# Altium footprint library lib_for_test_work.PcbLib: 15 footprints
Each footprint in its own frame and in the unit in brackets; x right, y up, seen from the top. Pads: shape width x height; smd on the part's side, far side on the other; paste and mask are expansions set on the pad; w line width, h text height; cw(c..) or ccw(c..) is an arc to the next point about the centre after c.
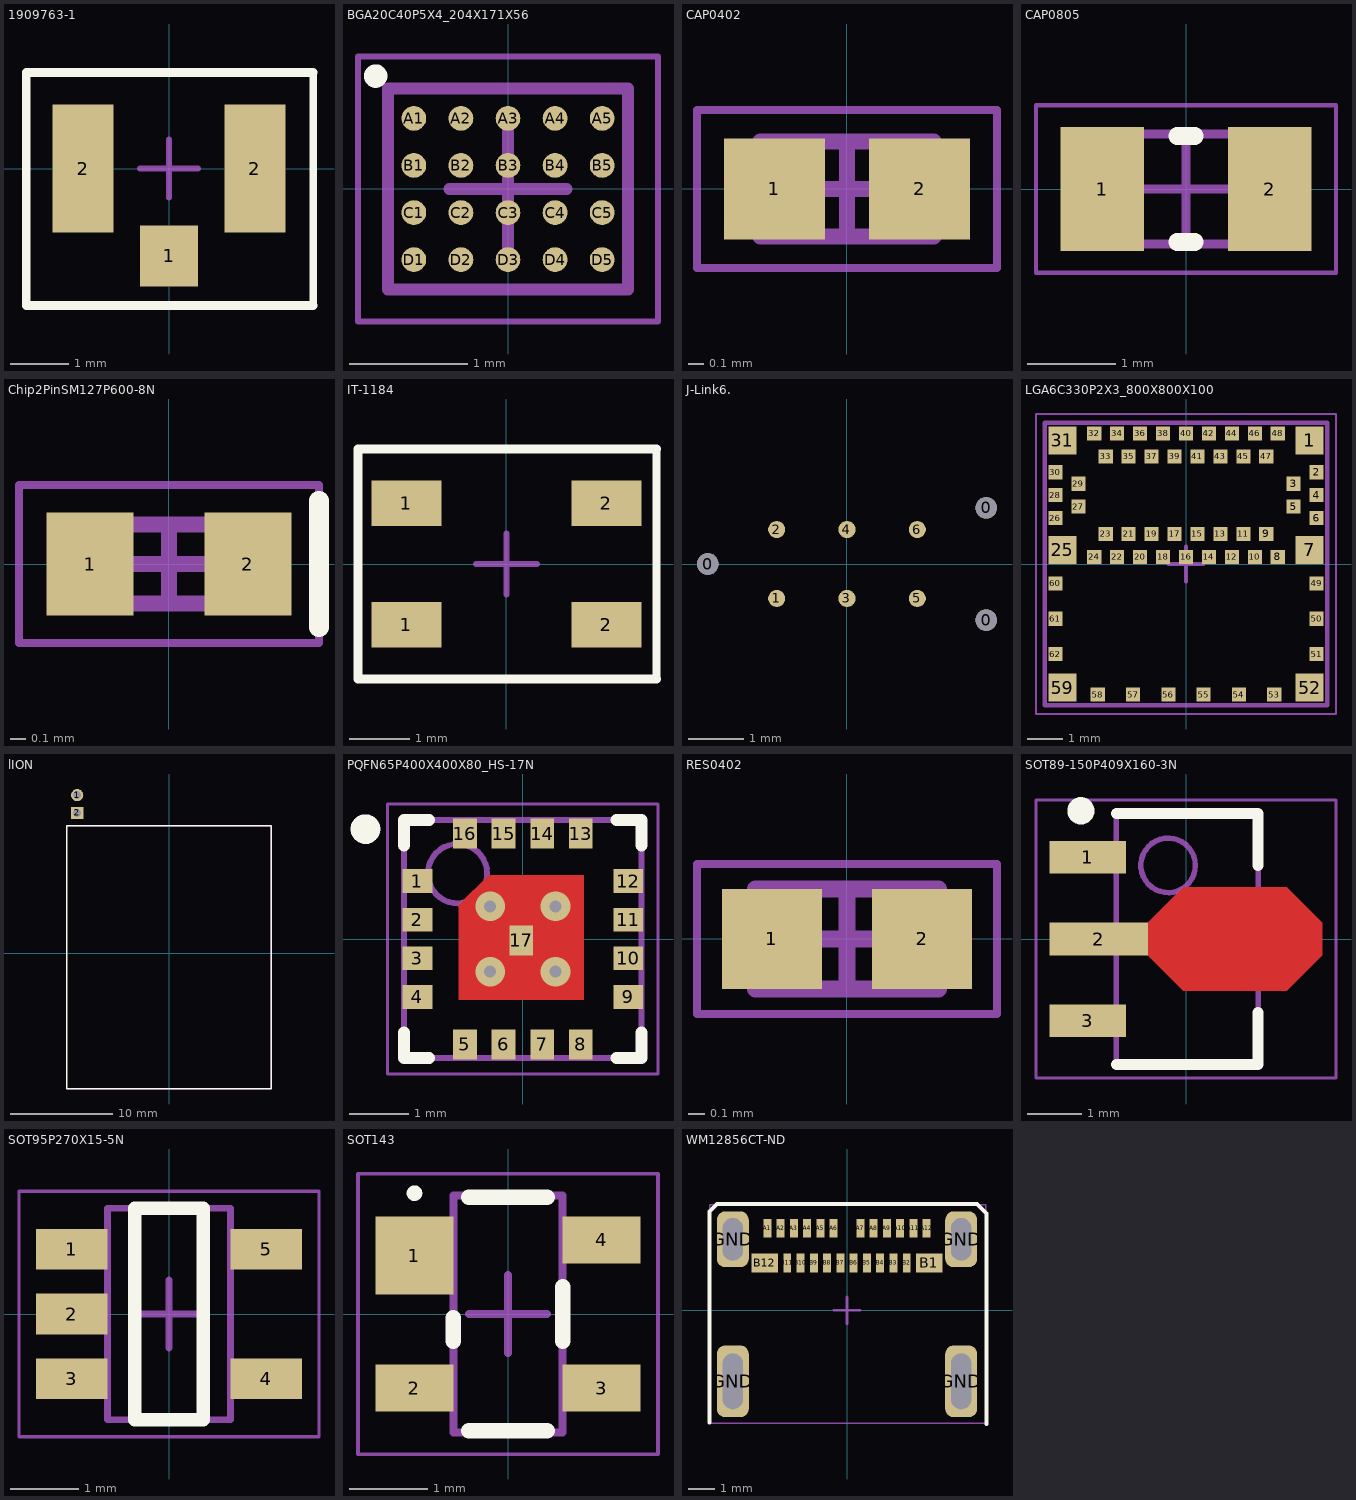
[diagram p0: the footprints below, top view; thin cyan lines are the x and y axes]

## 1909763-1 [mm] "RF-connector"
height 1.25
pads (3):
  rect 1x1.05 smd: 1(0,-1.5)
  rect 1.05x2.2 smd: 2(-1.475,0) 2(1.475,0)
Top Overlay:
  lines w0.125: 2.475,-2.35 2.475,1.65
  lines w0.15: 2.475,-2.35 -2.45,-2.35 -2.45,1.65 2.475,1.65
Mechanical 15:
  lines w0.05: -2.45,-2.35 -2.45,1.65 2.5,1.65 2.5,-2.35 -2.45,-2.35
  lines w0.1: -0.5,0 0.5,0 ; 0,-0.5 0,0.5
3D body: height 0.35, standoff 0, extent -1.4,-1.5 1.4,1.5
3D body: height 1.25, standoff 0, extent -0.992,-0.998 1,0.998

## BGA20C40P5X4_204X171X56 [mm] "BGA, 20-Leads, Body 2.04x1.71mmx0.56mm, Pitch 0.40mm"
height 0.56
pads (20):
  round 0.21 smd: A1(-0.8,0.6) A2(-0.4,0.6) A3(0,0.6) A4(0.4,0.6) A5(0.8,0.6) B1(-0.8,0.2) B2(-0.4,0.2) B3(0,0.2) B4(0.4,0.2) B5(0.8,0.2) C1(-0.8,-0.2) C2(-0.4,-0.2) C3(0,-0.2) C4(0.4,-0.2) C5(0.8,-0.2) D1(-0.8,-0.6) D2(-0.4,-0.6) D3(0,-0.6) D4(0.4,-0.6) D5(0.8,-0.6)
Top Overlay:
  circle w0.1: c-1.125,0.96 r0.05
Mechanical 13:
  lines w0.1: -1.02,-0.855 -1.02,0.855 1.02,0.855 1.02,-0.855 -1.02,-0.855
Mechanical 15:
  lines w0.05: -1.275,-1.125 -1.275,1.125 1.275,1.125 1.275,-1.125 -1.275,-1.125
  lines w0.1: -0.5,0 0.5,0 ; 0,-0.5 0,0.5
3D body: height 0.56, standoff 0.17, extent -1.02,-0.855 1.02,0.855

## CAP0402 [mm]
height 0.35
pads (2):
  rect 0.64x0.64 smd: 1(-0.46,0) 2(0.46,0)
Mechanical 13:
  lines w0.1: -0.55,-0.3 -0.55,0.3 0.55,0.3 0.55,-0.3 -0.55,-0.3
Mechanical 15:
  lines w0.05: -0.95,-0.5 -0.95,0.5 0.95,0.5 0.95,-0.5 -0.95,-0.5
  lines w0.1: -0.3,0 0.3,0 ; 0,-0.3 0,0.3
3D body: height 0.35, standoff 0, extent -0.35,-0.3 0.35,0.3
3D body: height 0.35, standoff 0, extent -0.55,-0.3 -0.35,0.3
3D body: height 0.35, standoff 0, extent 0.35,-0.3 0.55,0.3

## CAP0805 [mm]
height 1.35
pads (2):
  rect 0.95x1.4 smd: 1(-0.95,0) 2(0.95,0)
Top Overlay:
  lines w0.2: -0.1,-0.6 0.1,-0.6 ; -0.1,0.6 0.1,0.6
Mechanical 13:
  lines w0.1: -1,-0.625 1,-0.625 1,0.625 -1,0.625 -1,-0.625
Mechanical 15:
  lines w0.05: -1.7,-0.95 1.7,-0.95 1.7,0.95 -1.7,0.95 -1.7,-0.95
  lines w0.1: -0.5,0 0.5,0 ; 0,-0.5 0,0.5
3D body: height 1.35, standoff 0, extent 0.65,-0.625 1,0.625
3D body: height 1.35, standoff 0, extent -1,-0.625 -0.65,0.625
3D body: height 1.35, standoff 0, extent -0.65,-0.625 0.65,0.625

## Chip2PinSM127P600-8N [mm]
height 0.35
pads (2):
  rect 0.55x0.65 smd: 1(-0.5,0) 2(0.5,0)
Top Overlay:
  lines w0.125: 0.95,-0.4 0.95,0.4
Mechanical 13:
  lines w0.1: -0.5,-0.25 0.5,-0.25 0.5,0.25 -0.5,0.25 -0.5,-0.25
Mechanical 15:
  lines w0.05: -0.95,-0.5 0.95,-0.5 0.95,0.5 -0.95,0.5 -0.95,-0.5
  lines w0.1: -0.25,0 0.25,0 ; 0,-0.25 0,0.25
3D body: height 0.35, standoff 0, extent 0.3,-0.25 0.5,0.25
3D body: height 0.35, standoff 0, extent -0.5,-0.25 -0.3,0.25
3D body: height 0.35, standoff 0, extent -0.3,-0.25 0.3,0.25

## IT-1184 [mm] "TACK-BUTTON"
height 1.5
pads (4):
  rect 1.15x0.75 smd: 1(-1.65,-1) 1(-1.65,1) 2(1.65,-1) 2(1.65,1)
Top Overlay:
  lines w0.125: 2.475,-1.9 2.475,1.9
  lines w0.15: 2.475,-1.9 -2.45,-1.9 -2.45,1.9 2.475,1.9
Mechanical 15:
  lines w0.05: -2.45,-1.9 -2.45,1.9 2.5,1.9 2.5,-1.9 -2.45,-1.9
  lines w0.1: -0.5,0 0.5,0 ; 0,-0.5 0,0.5
3D body: height 1.5, standoff 0, extent -1.24,-1.247 1.25,1.248
3D body: height 1.2, standoff 0, extent -1.7,-1.7 1.7,1.7

## J-Link6. [mm]
pads (9):
  round 0.39 hole 0.39 unplated: 0(-2.525,0) 0(2.525,-1.016) 0(2.525,1.016)
  round 0.31 smd: 1(-1.275,-0.625) 2(-1.275,0.625) 3(0,-0.625) 4(0,0.625) 5(1.275,-0.625) 6(1.275,0.625)

## LGA6C330P2X3_800X800X100 [mm] "LGA, 6-Leads, Body 8.00x8.00mmx1.00mm, Pitch 3.30mm"
height 1
pads (62):
  rect 0.8x0.8 smd: 1(3.5,3.5) 7(3.5,0.4) 25(-3.5,0.4) 31(-3.5,3.5) 52(3.5,-3.5) 59(-3.5,-3.5)
  rect 0.4x0.4 smd: 2(3.7,2.6) 3(3.05,2.275) 4(3.7,1.95) 5(3.05,1.625) 6(3.7,1.3) 8(2.6,0.2) 9(2.275,0.85) 10(1.95,0.2) 11(1.625,0.85) 12(1.3,0.2) 13(0.975,0.85) 14(0.65,0.2) 15(0.325,0.85) 16(0,0.2) 17(-0.325,0.85) 18(-0.65,0.2) 19(-0.975,0.85) 20(-1.3,0.2) 21(-1.625,0.85) 22(-1.95,0.2) 23(-2.275,0.85) 24(-2.6,0.2) 26(-3.7,1.3) 27(-3.05,1.625) 28(-3.7,1.95) 29(-3.05,2.275) 30(-3.7,2.6) 32(-2.6,3.7) 33(-2.275,3.05) 34(-1.95,3.7) 35(-1.625,3.05) 36(-1.3,3.7) 37(-0.975,3.05) 38(-0.65,3.7) 39(-0.325,3.05) 40(0,3.7) 41(0.325,3.05) 42(0.65,3.7) 43(0.975,3.05) 44(1.3,3.7) 45(1.625,3.05) 46(1.95,3.7) 47(2.275,3.05) 48(2.6,3.7) 49(3.7,-0.55) 50(3.7,-1.55) 51(3.7,-2.55) 53(2.5,-3.7) 54(1.5,-3.7) 55(0.5,-3.7) 56(-0.5,-3.7) 57(-1.5,-3.7) 58(-2.5,-3.7) 60(-3.7,-0.55) 61(-3.7,-1.55) 62(-3.7,-2.55)
Mechanical 13:
  lines w0.125: -4,-4 -4,4 4,4 4,-4 -4,-4
Mechanical 15:
  lines w0.05: -4.25,-4.25 -4.25,4.25 4.25,4.25 4.25,-4.25 -4.25,-4.25
  lines w0.1: -0.5,0 0.5,0 ; 0,-0.5 0,0.5
3D body: height 1, standoff 0.3, extent -4,0 4,4
3D body: height 1, standoff 0.3, extent -4,-4 4,0

## lION [mm] "20x25X4"
height 4
pads (2):
  round 1.2 hole 0.8: 1(-9,15.5)
  rect 1.2x1.2 hole 0.8: 2(-9,13.75)
Top Overlay:
  lines w0.125: -10,-13.3 -10,12.5 10,12.5 10,-13.3 -10,-13.3
Mechanical 15:
  lines w0.05: -10,-13.3 -10,12.5 10,12.5 10,-13.3 -10,-13.3
3D body: height 4, standoff 0, extent -10,-13.3 10,12.5

## PQFN65P400X400X80_HS-17N [mm] "PQFN, 16-Leads, Body 4.00x4.00mm, Pitch 0.65mm, Thermal Pad 2.08x2.08mm, IPC Medium Density"
height 0.8
pads (17):
  rect 0.5x0.4 smd: 1(-1.775,0.975) 2(-1.775,0.325) 3(-1.775,-0.325) 4(-1.775,-0.975) 9(1.775,-0.975) 10(1.775,-0.325) 11(1.775,0.325) 12(1.775,0.975)
  rect 0.4x0.5 smd: 5(-0.975,-1.775) 6(-0.325,-1.775) 7(0.325,-1.775) 8(0.975,-1.775) 13(0.975,1.775) 14(0.325,1.775) 15(-0.325,1.775) 16(-0.975,1.775) 17(-0.025,-0.025)
via 0.55,-0.55 diameter 0.5 hole 0.2
via -0.55,-0.55 diameter 0.5 hole 0.2
via 0.55,0.55 diameter 0.5 hole 0.2
via -0.55,0.55 diameter 0.5 hole 0.2
Top Layer:
  region: -0.575,1.075 1.025,1.075 1.025,-1.025 -1.075,-1.025 -1.075,0.575
Top Overlay:
  circle w0.25: c-2.65,1.85 r0.125
  lines w0.2: -2,-1.575 -2,-2 -1.575,-2 ; -2,1.575 -2,2 -1.575,2 ; 1.575,-2 2,-2 2,-1.575 ; 1.575,2 2,2 2,1.575
Top Solder:
  region: -0.6,1.2 1.125,1.2 1.125,-1.125 -1.175,-1.125 -1.175,0.625
Mechanical 13:
  circle w0.1: c-1.1,1.1 r0.5
  lines w0.1: -2,-2 2,-2 2,2 -2,2 -2,-2
Mechanical 15:
  lines w0.05: -2.275,-2.275 2.275,-2.275 2.275,2.275 -2.275,2.275 -2.275,-2.275
  lines w0.1: -0.5,0 0.5,0 ; 0,-0.5 0,0.5
3D body: height 0.8, standoff 0.05, extent -2,-2 2,2

## RES0402 [mm] "Chip Resistor, 2-Leads, Body 1.00x0.50mm, IPC Medium Density"
height 0.35
pads (2):
  rect 0.6x0.6 smd: 1(-0.45,0) 2(0.45,0)
Mechanical 13:
  lines w0.1: -0.55,-0.3 0.55,-0.3 0.55,0.3 -0.55,0.3 -0.55,-0.3
Mechanical 15:
  lines w0.05: -0.9,-0.45 0.9,-0.45 0.9,0.45 -0.9,0.45 -0.9,-0.45
  lines w0.1: -0.3,0 0.3,0 ; 0,-0.3 0,0.3
3D body: height 0.35, standoff 0, extent 0.35,-0.3 0.55,0.3
3D body: height 0.35, standoff 0, extent -0.55,-0.3 -0.35,0.3
3D body: height 0.35, standoff 0, extent -0.35,-0.3 0.35,0.3

## SOT89-150P409X160-3N [mm] "SOT89, 3-Leads, Body 4.50x2.50mm, Pitch 1.50mm, Lead Span 4.1mm, IPC Medium Density"
height 1.6
pads (3):
  rect 1.4x0.6 smd: 1(-1.8,1.5) 3(-1.8,-1.5)
  rect 1.8x0.6 smd: 2(-1.6,0)
Top Layer:
  region: -0.7,0.3 -0.05,0.95 1.85,0.95 2.5,0.3 2.5,-0.3 1.85,-0.95 -0.05,-0.95 -0.7,-0.3
Top Overlay:
  circle w0.25: c-1.927,2.35 r0.125
  lines w0.2: -1.278,-2.3 1.322,-2.3 1.322,-1.35 ; -1.278,2.3 1.322,2.3 1.322,1.35
Mechanical 13:
  circle w0.1: c-0.327,1.35 r0.5
  lines w0.1: -1.278,-2.3 1.322,-2.3 1.322,2.3 -1.278,2.3 -1.278,-2.3
Mechanical 15:
  lines w0.05: -2.75,-2.55 2.75,-2.55 2.75,2.55 -2.75,2.55 -2.75,-2.55
  lines w0.1: -0.477,0 0.523,0 ; 0.022,-0.5 0.022,0.5
3D body: height 1.6, standoff 0, extent -1.278,-2.3 1.322,2.3

## SOT95P270X15-5N [mm] "SOT23, 5-Leads, Body 2.90x2.70mm, Pitch 0.95mm, IPC Medium Density"
height 0.15
pads (5):
  rect 1.05x0.6 smd: 1(-1.425,0.95) 2(-1.425,0) 3(-1.425,-0.95) 4(1.425,-0.95) 5(1.425,0.95)
Top Overlay:
  lines w0.2: -0.5,-1.55 -0.5,1.55 0.5,1.55 0.5,-1.55 -0.5,-1.55
Mechanical 13:
  lines w0.1: -0.9,-1.55 0.9,-1.55 0.9,1.55 -0.9,1.55 -0.9,-1.55
Mechanical 15:
  lines w0.05: -2.2,-1.8 2.2,-1.8 2.2,1.8 -2.2,1.8 -2.2,-1.8
  lines w0.1: -0.5,0 0.5,0 ; 0,-0.5 0,0.5
3D body: height 1.3, standoff 0.15, extent -0.9,-1.55 0.9,1.55

## SOT143 [mm]
height 1.1
pads (4):
  rect 1x1 smd: 1(-1.2,0.75)
  rect 1x0.6 smd: 2(-1.2,-0.95) 3(1.2,-0.95) 4(1.2,0.95)
Top Overlay:
  circle w0.1: c-1.2,1.55 r0.05
  lines w0.2: -0.7,-0.35 -0.7,-0.05 ; -0.5,-1.5 0.5,-1.5 ; -0.5,1.5 0.5,1.5 ; 0.7,-0.35 0.7,0.35
Mechanical 13:
  lines w0.1: -0.7,-1.52 -0.7,1.52 0.7,1.52 0.7,-1.52 -0.7,-1.52
Mechanical 15:
  lines w0.05: -1.925,-1.8 -1.925,1.8 1.925,1.8 1.925,-1.8 -1.925,-1.8
  lines w0.1: -0.5,0 0.5,0 ; 0,-0.5 0,0.5
3D body: height 1.2, standoff 0.15, extent -0.7,-1.52 0.7,1.52

## WM12856CT-ND [mm] "USB-type-C"
height 3.24
pads (28):
  rect 0.3x0.7 smd: A1(-3,3.085) A2(-2.5,3.085) A3(-2,3.085) A4(-1.5,3.085) A5(-1,3.085) A6(-0.5,3.085) A7(0.5,3.085) A8(1,3.085) A9(1.5,3.085) A10(2,3.085) A11(2.5,3.085) A12(3,3.085) B2(2.25,1.785) B3(1.75,1.785) B4(1.25,1.785) B5(0.75,1.785) B6(0.25,1.785) B7(-0.25,1.785) B8(-0.75,1.785) B9(-1.25,1.785) B10(-1.75,1.785) B11(-2.25,1.785)
  rect 1x0.7 smd: B1(3.1,1.785) B12(-3.1,1.785)
  rrect50% 1.2x2.7 hole 0.762 slot 2.1 at 90 deg: GND(-4.3,-2.675) GND(4.3,-2.675)
  rrect50% 1.2x2.1 hole 0.762 slot 1.6 at 90 deg: GND(-4.3,2.675) GND(4.3,2.675)
Top Overlay:
  lines w0.15: -5.175,-4.225 -5.175,3.725 -4.9,4 4.9,4 5.25,3.65 5.25,-4.275
Mechanical 15:
  lines w0.05: -5.175,-4.25 -5.175,3.975 5.225,3.975 5.225,-4.25 -5.175,-4.25
  lines w0.1: -0.5,0 0.5,0 ; 0,-0.5 0,0.5
3D body "1054500101.stp": height 0.46, standoff -3.5, extent -4.47,-4.7 4.47,3.2